# Altium schematic symbol library LESD5D5.0CT1G.SchLib: 1 symbol
Pins are listed as number, name and electrical type; pins without a type are passive.

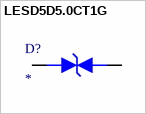
[diagram p0: symbol LESD5D5.0CT1G]

## LESD5D5.0CT1G
designator D?
footprint SOD-523
pins: 1, 2